# EAGLE library part CPCI-SHIELD_B19 (library con-cpci)
Compact PCI - Abschirmblech unten B 19 / Lower Shield Type B 19 Source: www.erni.com
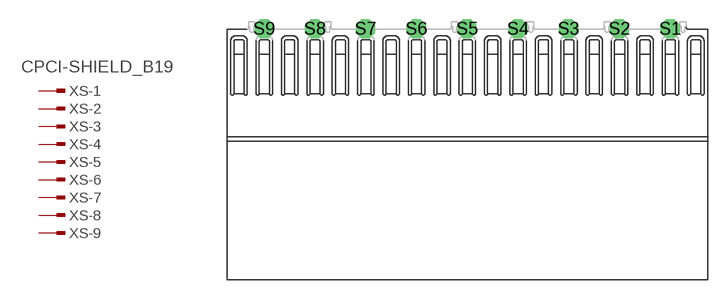
[diagram p1: symbol with the pads of 064782; footprint 064782]

Designator prefix XS; gates -1=PINV -2=PIN -3=PIN -4=PIN -5=PIN -6=PIN -7=PIN -8=PIN -9=PIN

## CPCI-SHIELD_B19  [064782]
S1  -1:1  in
S2  -2:1  in
S3  -3:1  in
S4  -4:1  in
S5  -5:1  in
S6  -6:1  in
S7  -7:1  in
S8  -8:1  in
S9  -9:1  in

## Footprint 064782 (pad centres in mm)
ERmet Abschirmblech unten B 19 / ERmet Lower Shield Type B 19 Source: http://www.erni.com/DB/PDF-Drawing/ERmet/064782.pdf
drill 1 octagon: S1 16,0; S2 12,0; S3 8,0; S4 4,0; S5 0,0; S6 -4,0; S7 -8,0; S8 -12,0; S9 -16,0